# EAGLE library part DF13C-8P-1.25 (library Sala-Eng-Hirose)
Hirose DF13 1.25mm Connector DF13C-8P-1.25
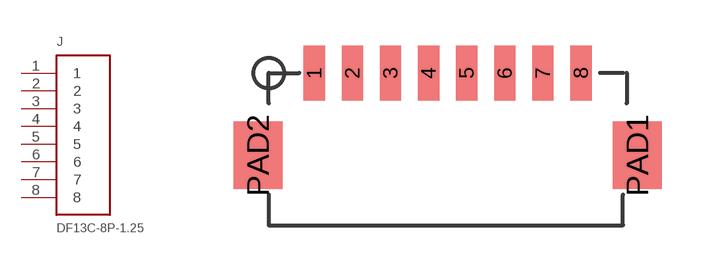
[diagram p4: symbol with the pads of DF13C-8C-1.25V(21); footprint DF13C-8C-1.25V(21)]

Designator prefix J

## DF13C-8P-1.25  [DF13C-8C-1.25V(21)]
1  1
2  2
3  3
4  4
5  5
6  6
7  7
8  8

## Footprint DF13C-8C-1.25V(21) (pad centres in mm)
Hirose DF13 1.25mm Connector DF13C-8P-1.25
smd 0.7 x 1.8: 1 -4.375,0; 2 -3.125,0; 3 -1.875,0; 4 -0.625,0; 5 0.625,0; 6 1.875,0; 7 3.125,0; 8 4.375,0
smd 1.6 x 2.2: PAD1 6.225,-2.7; PAD2 -6.225,-2.7